# Altium footprint library 3V3 Voltage Regulators.PcbLib: 3 footprints
Each footprint in its own frame and in the unit in brackets; x right, y up, seen from the top. Pads: shape width x height; smd on the part's side, far side on the other; paste and mask are expansions set on the pad; w line width, h text height; cw(c..) or ccw(c..) is an arc to the next point about the centre after c.
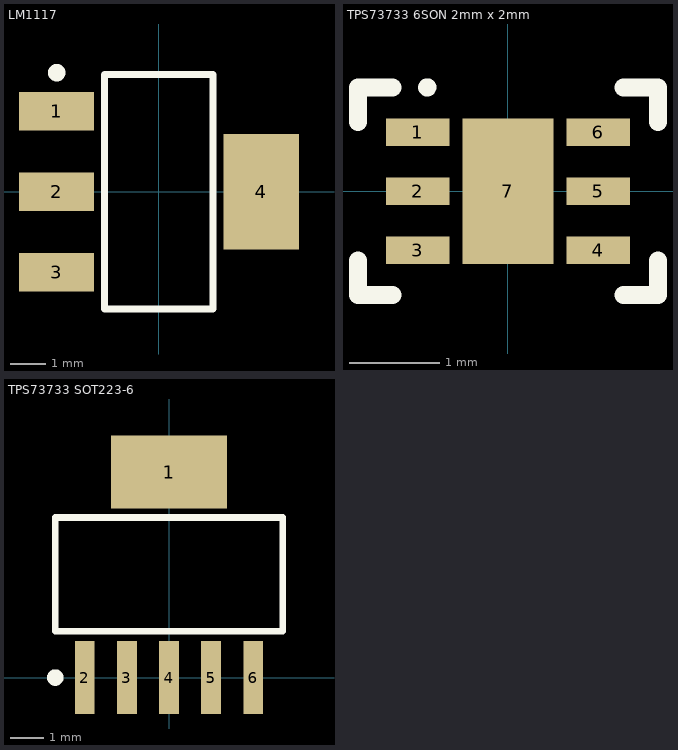
[diagram p0: the footprints below, top view; thin cyan lines are the x and y axes]

## LM1117 [mm] "SOT223, 4-Leads, Body 6,50x7,00mm (avg), Pitch 2,30mm, IPC Medium Density"
height 1.8
pads (4):
  rect 2.15x1.1 smd: 1(-2.925,2.3) 2(-2.925,0) 3(-2.925,-2.3)
  rect 2.15x3.3 smd: 4(2.925,0)
Top Overlay:
  circle w0.25: c-2.925,3.4 r0.125
  lines w0.2: -1.55,-3.35 1.55,-3.35 1.55,3.35 -1.55,3.35 -1.55,-3.35
3D body "CircuitWorks-SOT-223.step": height 1.66, standoff -0.02, extent -3.455,-3.25 3.505,3.25

## TPS73733 6SON 2mm x 2mm [mm] "Linear Voltage Regulator IC Positive Fixed 1 Output  1A 6-SON (2x2)"
height 0.8
pads (7):
  rect 0.7x0.3 smd: 1(-0.995,0.65) 2(-0.995,0) 3(-0.995,-0.65) 4(0.995,-0.65) 5(0.995,0) 6(0.995,0.65)
  rect 1x1.6 smd paste-0.445: 7(0,0)
Top Overlay:
  circle w0.1: c-0.889,1.143 r0.05
  lines w0.2: -1.651,-0.762 -1.651,-1.143 -1.27,-1.143 ; -1.651,0.762 -1.651,1.143 -1.27,1.143 ; 1.27,-1.143 1.651,-1.143 1.651,-0.762 ; 1.27,1.143 1.651,1.143 1.651,0.762
3D body "SON6 2mm x 2mm.step": height 0.75, standoff 0, extent -1.001,-1 1.001,1

## TPS73733 SOT223-6 [mm] "Linear Voltage Regulator IC Positive Fixed 1 Output 3.3V 1A SOT-223-6"
pads (6):
  rect 3.5x2.2 smd: 1(0,6.2)
  rect 0.6x2.2 smd: 2(-2.54,0) 3(-1.27,0) 4(0,0) 5(1.27,0) 6(2.54,0)
Top Overlay:
  circle w0.25: c-3.429,0 r0.125
  lines w0.2: -3.429,1.397 3.429,1.397 3.429,4.826 -3.429,4.826 -3.429,1.397
3D body "DCQ - TPS737xx.step": height 1.77, standoff -0.03, extent -3.275,-0.455 3.275,6.805